# Altium schematic symbol library Analog$.SchLib: 93 symbols
Pins are listed as number, name and electrical type; pins without a type are passive.

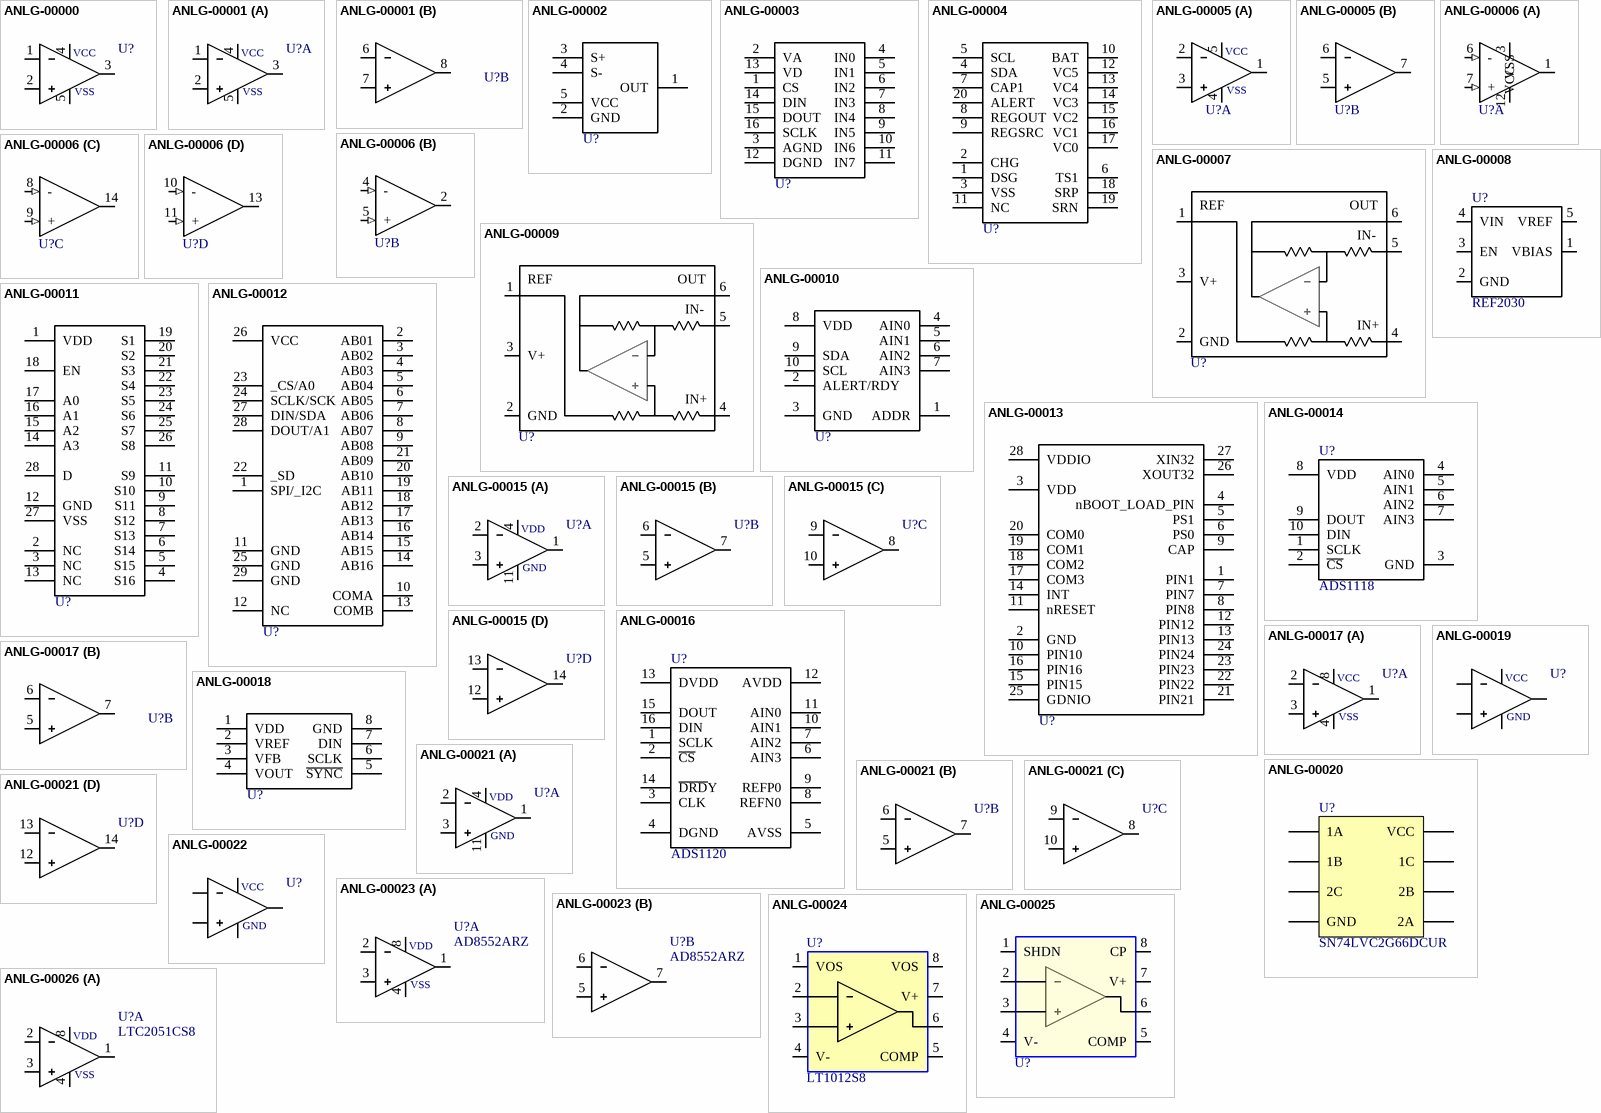
[diagram p0: symbols ANLG-00000 to ANLG-00026]

## ANLG-00000
designator U?, comment op-amp_0  (value not drawn)
Op Amp, Rail-Rail, 1.9MHz, SOT-25; Part Number: ANLG-00000; Manufacturer: Diodes; Manufacturer PN: TLV271CW5-7
footprint sot-25
pins: 1, 2, 3, 4, 5
text: VCC; VSS

## ANLG-00001
designator U?, comment op-amp-d_0  (value not drawn)
Op Amp, Dual, Rail-Rail, 2MHz, SO-8; Part Number: ANLG-00001; Manufacturer: Diodes; Manufacturer PN: TLV272IS-13
footprint so-8
part A pins: 1, 2, 3, 4, 5
part B pins: 6, 7, 8
part A text: VCC; VSS

## ANLG-00002
designator U?, comment curr-mon_0  (value not drawn)
Curr Monitor, High Side, 60V, SOT-25; Part Number: ANLG-00002; Manufacturer: Diodes; Manufacturer PN: ZXCT1086E5TA
footprint sot-25
pins: 1 OUT, 2 GND, 3 S+, 4 S-, 5 VCC

## ANLG-00003
designator U?, comment ADC088S022  (value not drawn)
ADC, 8-bit, 8-channel, 200ksps, TSSOP-16; Part Number: ANLG-00003; Manufacturer: TI; Manufacturer PN: ADC088S022
footprint tssop-16_0
pins: 1 CS, 2 VA, 3 AGND, 4 IN0, 5 IN1, 6 IN2, 7 IN3, 8 IN4, 9 IN5, 10 IN6, 11 IN7, 12 DGND, 13 VD, 14 DIN, 15 DOUT, 16 SCLK

## ANLG-00004
designator U?, comment BQ76920  (value not drawn)
Batt Monitor, 3-5 Cell, BQ76920; Part Number: ANLG-00004; Manufacturer: TI; Manufacturer PN: BQ7690
footprint TSSOP-20_0
pins: 1 DSG, 2 CHG, 3 VSS, 4 SDA, 5 SCL, 6 TS1, 7 CAP1, 8 REGOUT, 9 REGSRC, 10 BAT, 11 NC, 12 VC5, 13 VC4, 14 VC3, 15 VC2, 16 VC1, 17 VC0, 18 SRP, 19 SRN, 20 ALERT

## ANLG-00005
designator U?, comment LM358  (value not drawn)
Op Amp, Dual, 1.1MHz, SO-8, LM358; Part Number: ANLG-00005; Manufacturer: ST; Manufacturer PN: LM358DT
footprint so-8
part A pins: 1, 2, 3, 4, 5
part B pins: 5, 6, 7
part A text: VCC; VSS

## ANLG-00006
designator U?, comment LM339  (value not drawn)
Comp, Quad, LM339; Part Number: ANLG-00006; Manufacturer: TI; Manufacturer PN: LM339
footprint so-14
part A pins: 1 (oc), 3 VCC, 6 - (in), 7 + (in), 12 VSS
part B pins: 2 (oc), 4 - (in), 5 + (in)
part C pins: 8 - (in), 9 + (in), 14 (oc)
part D pins: 10 - (in), 11 + (in), 13 (oc)

## ANLG-00007
designator U?, comment INA215  (value not drawn)
Curr monitor, Bidirection, Gain 75, Low/High Side, 75V, SC70; Part Number: ANLG-00007; Manufacturer: TI; Manufacturer PN: INA215
footprint SC70
pins: 1 REF, 2 GND, 3 V+, 4 IN+, 5 IN-, 6 OUT

## ANLG-00008
designator U?, comment REF2030
Reference, Dual VREF VREF/2 Low Drift, 3V, SOT 23-5; Part Number: ANLG-00008; Manufacturer: TI; Manufacturer PN: REF2030
footprint sot-23-5
pins: 1 VBIAS, 2 GND, 3 EN, 4 VIN, 5 VREF

## ANLG-00009
designator U?, comment INA215  (value not drawn)
Curr monitor, Bidirection, Gain 50, Low/High Side, 75V, SC70; Part Number: ANLG-00009; Manufacturer: TI; Manufacturer PN: INA213
footprint SC70
pins: 1 REF, 2 GND, 3 V+, 4 IN+, 5 IN-, 6 OUT

## ANLG-00010
designator U?, comment ADS1115  (value not drawn)
ADC, 16-Bit, 4-channel, Low power, ADS1115, VSSOP-10; Part Number: ANLG-00010; Manufacturer: TI; Manufacturer PN: ADS1115
footprint VSSOP-10_0
pins: 1 ADDR, 2 ALERT/RDY, 3 GND, 4 AIN0, 5 AIN1, 6 AIN2, 7 AIN3, 8 VDD, 9 SDA, 10 SCL

## ANLG-00011
designator U?, comment MUX36S16  (value not drawn)
Analog Mux, 16:1, 10V - 36V, MUX36S16; Part Number: ANLG-00011; Manufacturer: TI; Manufacturer PN: MUX36S16
footprint tssop-28_1
pins: 1 VDD, 2 NC, 3 NC, 4 S16, 5 S15, 6 S14, 7 S13, 8 S12, 9 S11, 10 S10, 11 S9, 12 GND, 13 NC, 14 A3, 15 A2, 16 A1, 17 A0, 18 EN, 19 S1, 20 S2, 21 S3, 22 S4, 23 S5, 24 S6, 25 S7, 26 S8, 27 VSS, 28 D

## ANLG-00012
designator U?, comment MAX14661  (value not drawn)
Analog Mux, 16:2, Beyond the Rails, MAX14661; Part Number: ANLG-00012; Manufacturer: Maxim; Manufacturer PN: MAX14661
footprint TQFN-28L
pins: 1 SPI/_I2C, 2 AB01, 3 AB02, 4 AB03, 5 AB04, 6 AB05, 7 AB06, 8 AB07, 9 AB08, 10 COMA, 11 GND, 12 NC, 13 COMB, 14 AB16, 15 AB15, 16 AB14, 17 AB13, 18 AB12, 19 AB11, 20 AB10, 21 AB09, 22 _SD, 23 _CS/A0, 24 SCLK/SCK, 25 GND, 26 VCC, 27 DIN/SDA, 28 DOUT/A1, 29 GND

## ANLG-00013
designator U?, comment BNO055  (value not drawn)
Sensor, 9-Axis IMU, BNO055, LGA28; Part Number: ANLG-00013; Manufacturer: Bosch; Manufacturer PN: BNO055
footprint LGA28
pins: 1 PIN1, 2 GND, 3 VDD, 4 nBOOT_LOAD_PIN, 5 PS1, 6 PS0, 7 PIN7, 8 PIN8, 9 CAP, 10 PIN10, 11 nRESET, 12 PIN12, 13 PIN13, 14 INT, 15 PIN15, 16 PIN16, 17 COM3, 18 COM2, 19 COM1, 20 COM0, 21 PIN21, 22 PIN22, 23 PIN23, 24 PIN24, 25 GDNIO, 26 XOUT32, 27 XIN32, 28 VDDIO

## ANLG-00014
designator U?, comment ADS1118
ADC, 16-bit, 4-channel, SPI, ADS1118, VSSOP-10; Part Number: ANLG-00014; Manufacturer: TI; Manufacturer PN: ADS1118
footprint VSSOP-10_0
pins: 1 SCLK, 2 ~{CS}, 3 GND, 4 AIN0, 5 AIN1, 6 AIN2, 7 AIN3, 8 VDD, 9 DOUT, 10 DIN

## ANLG-00015
designator U?, comment TLV274CPWR  (value not drawn)
Op Amp, Quad, Rail-Rail, 3-MHz, TSSOP-14; Part Number: ANLG-00015; Manufacturer: TI; Manufacturer PN: TLV274CPWR
footprint TSSOP-14_0
part A pins: 1, 2, 3, 4, 11
part B pins: 5, 6, 7
part C pins: 8, 9, 10
part D pins: 12, 13, 14
part A text: VDD; GND

## ANLG-00016
designator U?, comment ADS1120
ADC, 16-bit, 4-channel, SPI, 2k SPS, TSSOP-16; Part Number: ANLG-00016; Manufacturer: TI; Manufacturer PN: ADS1120; Cost: 6.8
footprint tssop-16_0
pins: 1 SCLK, 2 ~{CS}, 3 CLK, 4 DGND, 5 AVSS, 6 AIN3, 7 AIN2, 8 REFN0, 9 REFP0, 10 AIN1, 11 AIN0, 12 AVDD, 13 DVDD, 14 ~{DRD}Y, 15 DOUT, 16 DIN

## ANLG-00017
designator U?, comment TLV272DGK  (value not drawn)
Op Amp, Dual, Rail-Rail, 3MHZ, 8-VSSOP; Part Number: ANLG-00017; Manufacturer: TI; Manufacturer PN: TLV272CDGKR; Cost: 0.8
footprint VSSOP-8_0
part A pins: 1, 2, 3, 4, 8
part B pins: 5, 6, 7
part A text: VCC; VSS

## ANLG-00018
designator U?, comment DAC8551  (value not drawn)
DAC, 16-bit, Voltage output, SPI, 8-VSSOP; Part Number: ANLG-00018; Manufacturer: TI; Manufacturer PN: DAC8551IDGKR; Cost: 6.27
footprint VSSOP-8_0
pins: 1 VDD, 2 VREF, 3 VFB, 4 VOUT, 5 ~{SYNC}, 6 SCLK, 7 DIN, 8 GND

## ANLG-00019
designator U?, comment LMV331  (value not drawn)
Comparator, Single, LM331, SOT-23-5, 5.5V; Part Number: ANLG-00019; Manufacturer: TI; Manufacturer PN: LMV331IDBVR; Cost: 0.68
footprint sot-23-5
pins: 1, 2, 3, 4, 5
text: VCC; GND

## ANLG-00020
designator U?, comment SN74LVC2G66DCUR
Analog Switch, Dual, SPST, SN74LVC2G66DCUR SO-8; Part Number: ANLG-00020; Manufacturer: TI; Manufacturer PN: SN74LVC2G66DCUR; Cost: 0.53
footprint so-8
pins: 1 1A, 2 1B, 3 2C, 4 GND, 5 2A, 6 2B, 7 1C, 8 VCC

## ANLG-00021
designator U?, comment OPA4170  (value not drawn)
Op Amp, Quad, Rail-Rail, 1.2-MHz, SO-14, 36V; Part Number: ANLG-00021; Manufacturer: TI; Manufacturer PN: OPA4170AIDR; Cost: 2.79
footprint so-14
part A pins: 1, 2, 3, 4, 11
part B pins: 5, 6, 7
part C pins: 8, 9, 10
part D pins: 12, 13, 14
part A text: VDD; GND

## ANLG-00022
designator U?, comment COMP_0  (value not drawn)
Comparator, Single, TLV1701, SOT-23-5, 36V; Part Number: ANLG-00022; Manufacturer: TI; Manufacturer PN: TLV1701AIDBVR; Cost: 1.16
footprint sot-23-5
pins: 1, 2, 3, 4, 5
text: VCC; GND

## ANLG-00023
designator U?, comment AD8552ARZ
Op Amp, Dual, Zero-Drift, Rail-Rail, AD8552; Part Number: ANLG-00023; Manufacturer: Analog Devices; Manufacturer PN: AD8552ARZ; Cost: 5.18
footprint so-8
part A pins: 1, 2, 3, 4, 8
part B pins: 5, 6, 7
part A text: VDD; VSS

## ANLG-00024
designator U?, comment LT1012S8
Op Amp, Single, Gen. Purpose, LT1012; Part Number: ANLG-00024; Manufacturer: Analog Devices; Manufacturer PN: LT1012S8; Cost: 7.59
footprint so-8
pins: 1 VOS, 2, 3, 4 V-, 5 COMP, 6, 7 V+, 8 VOS

## ANLG-00025
designator U?, comment op-amp_2  (value not drawn)
Op Amp, Single, Zero-Drift, 10pA input bias, LTC1152; Part Number: ANLG-00025; Manufacturer: Analog Devices; Manufacturer PN: LTC1152CS8#PBF; Cost: 6.66
footprint so-8
pins: 1 SHDN, 2, 3, 4 V-, 5 COMP, 6, 7 V+, 8 CP

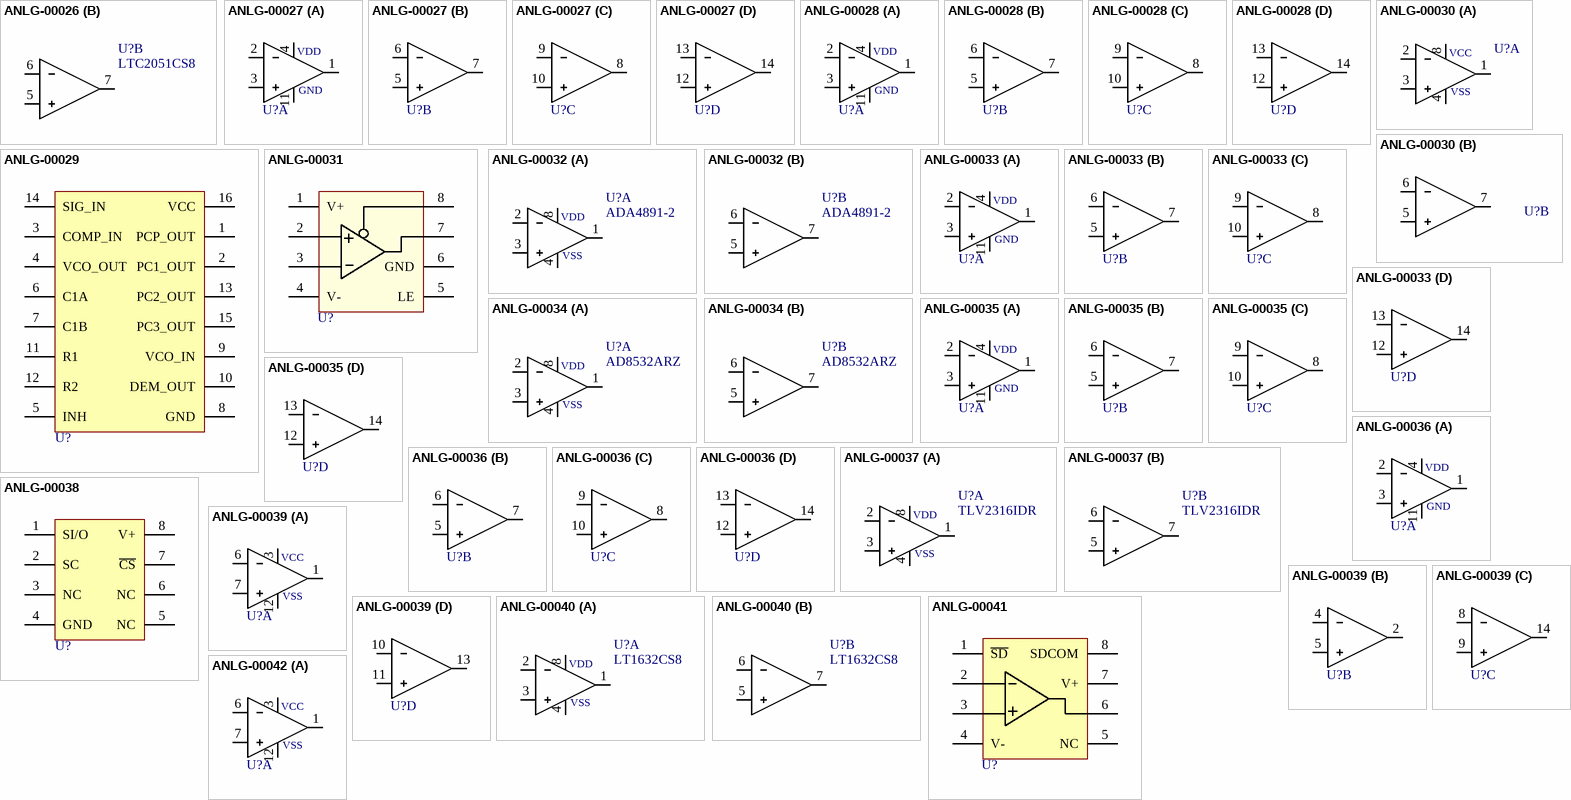
[diagram p1: symbols ANLG-00026 to ANLG-00042]

## ANLG-00026
designator U?, comment LTC2051CS8
Op Amp, Dual, Zero-Drift, 5V, LTC2051CS8; Part Number: ANLG-00026; Manufacturer: Analog Devices; Manufacturer PN: LTC2051CS8; Cost: 5.63
footprint so-8
part A pins: 1, 2, 3, 4, 8
part B pins: 5, 6, 7
part A text: VDD; VSS

## ANLG-00027
designator U?, comment op-amp-q_0  (value not drawn)
Op Amp, Quad, Zero-Drift, 5V, LTC2052CS; Part Number: ANLG-00027; Manufacturer: Analog Devices; Manufacturer PN: LTC2052CS; Cost: 1
footprint so-14
part A pins: 1, 2, 3, 4, 11
part B pins: 5, 6, 7
part C pins: 8, 9, 10
part D pins: 12, 13, 14
part A text: VDD; GND

## ANLG-00028
designator U?, comment op-amp-q_0  (value not drawn)
Op Amp, Quad, Zero-Drift, Rail-Rail, AD8554; Part Number: ANLG-00028; Manufacturer: Analog Devices; Manufacturer PN: AD8554ARZ; Cost: 8.2
footprint so-14
part A pins: 1, 2, 3, 4, 11
part B pins: 5, 6, 7
part C pins: 8, 9, 10
part D pins: 12, 13, 14
part A text: VDD; GND

## ANLG-00029
designator U?, comment HC4046  (value not drawn)
PLL, 4046, SOIC-16; Part Number: ANLG-00029; Manufacturer: TI; Manufacturer PN: CD74HC4046AM96; Cost: 0.6
footprint so-16
pins: 1 PCP_OUT, 2 PC1_OUT, 3 COMP_IN, 4 VCO_OUT, 5 INH, 6 C1A, 7 C1B, 8 GND, 9 VCO_IN, 10 DEM_OUT, 11 R1, 12 R2, 13 PC2_OUT, 14 SIG_IN, 15 PC3_OUT, 16 VCC

## ANLG-00030
designator U?, comment TLV272DGK  (value not drawn)
Op Amp, Dual, Rail-Rail, 3MHZ, SOIC-8; Part Number: ANLG-00030; Manufacturer: TI; Manufacturer PN: TLV272CDR; Cost: 0.9
footprint so-8
part A pins: 1, 2, 3, 4, 8
part B pins: 5, 6, 7
part A text: VCC; VSS

## ANLG-00031
designator U?, comment LT1016  (value not drawn)
Comparator, Single, LT1016, SOIC-8, UltraFast; Part Number: ANLG-00031; Manufacturer: Analog Devices; Manufacturer PN: LT1016CS8; Cost: 7.62
footprint so-8
pins: 1 V+, 2 +, 3 -, 4 V-, 5 LE, 6 GND, 7 Q, 8 ~{Q}

## ANLG-00032
designator U?, comment ADA4891-2
Op Amp, Dual, Rail-Rail, 220MHz, SOIC-8, ADA4891-2; Part Number: ANLG-00032; Manufacturer: Analog Devices; Manufacturer PN: ADA4891-2; Cost: 2.09
footprint so-8
part A pins: 1, 2, 3, 4, 8
part B pins: 5, 6, 7
part A text: VDD; VSS

## ANLG-00033
designator U?, comment op-amp-q_0  (value not drawn)
Op Amp, Quad, Rail-Rail, 3-MHz, SOIC-14, AD8534; Part Number: ANLG-00033; Manufacturer: Analog Devices; Manufacturer PN: AD8534ARZ; Cost: 1.75
footprint so-14
part A pins: 1, 2, 3, 4, 11
part B pins: 5, 6, 7
part C pins: 8, 9, 10
part D pins: 12, 13, 14
part A text: VDD; GND

## ANLG-00034
designator U?, comment AD8532ARZ
Op Amp, Dual, Rail-Rail, 3-MHz, SOIC-8, AD8532; Part Number: ANLG-00034; Manufacturer: Analog Devices; Manufacturer PN: AD8532ARZ; Cost: 1.37
footprint so-8
part A pins: 1, 2, 3, 4, 8
part B pins: 5, 6, 7
part A text: VDD; VSS

## ANLG-00035
designator U?, comment op-amp-q_0  (value not drawn)
Op Amp, Quad, Rail-Rail, 3-MHz, SOIC-14, TLV274; Part Number: ANLG-00035; Manufacturer: TI; Manufacturer PN: TLV274CDR; Cost: 1.26
footprint so-14
part A pins: 1, 2, 3, 4, 11
part B pins: 5, 6, 7
part C pins: 8, 9, 10
part D pins: 12, 13, 14
part A text: VDD; GND

## ANLG-00036
designator U?, comment op-amp-q_0  (value not drawn)
Op Amp, Quad, Rail-Rail, 10-MHz, CMOS, SOIC-14, TLV4316; Part Number: ANLG-00036; Manufacturer: TI; Manufacturer PN: TLV4316IDR; Cost: 1.61
footprint so-14
part A pins: 1, 2, 3, 4, 11
part B pins: 5, 6, 7
part C pins: 8, 9, 10
part D pins: 12, 13, 14
part A text: VDD; GND

## ANLG-00037
designator U?, comment TLV2316IDR
Op Amp, Dual, Rail-Rail, 10-MHz, CMOS, SOIC-8, TLV2316; Part Number: ANLG-00037; Manufacturer: TI; Manufacturer PN: TLV2316IDR; Cost: 1.08
footprint so-8
part A pins: 1, 2, 3, 4, 8
part B pins: 5, 6, 7
part A text: VDD; VSS

## ANLG-00038
designator U?, comment LM74  (value not drawn)
Temperature Sensor, SPI 12-bit, SOIC-8, LM74; Part Number: ANLG-00038; Manufacturer: TI; Manufacturer PN: LM74CIM-3/NOPB; Cost: 2.52
footprint so-8
pins: 1 SI/O, 2 SC, 3 NC, 4 GND, 5 NC, 6 NC, 7 ~{CS}, 8 V+

## ANLG-00039
designator U?, comment comp_q_0  (value not drawn)
Comparator, Quad, TLV1704, 2.2V-36V, TSSOP-14; Part Number: ANLG-00039; Manufacturer: TI; Manufacturer PN: TLV1704AIPWR; Cost: 2.59
footprint TSSOP-14_0
part A pins: 1, 3, 6, 7, 12
part B pins: 2, 4, 5
part C pins: 8, 9, 14
part D pins: 10, 11, 13
part A text: VCC; VSS

## ANLG-00040
designator U?, comment LT1632CS8
Op Amp, Dual, Rail-Rail, 45MHz, 45V/us, SOIC-8, LT1632; Part Number: ANLG-00040; Manufacturer: Analog Devices; Manufacturer PN: LT1632CS8; Cost: 7.75
footprint so-8
part A pins: 1, 2, 3, 4, 8
part B pins: 5, 6, 7
part A text: VDD; VSS

## ANLG-00041
designator U?, comment LTC2057  (value not drawn)
Op Amp, Single, High-Voltage (4.5 - 36V), Low Noise, Zero-Drift, SOIC-8, LTC2057; Part Number: ANLG-00041; Manufacturer: Analog Devices; Manufacturer PN: LTC2057IS8#PBF; Cost: 2.78
footprint so-8
pins: 1 ~{SD}, 2 -IN, 3 +IN, 4 V-, 5 NC, 6 OUT, 7 V+, 8 SDCOM

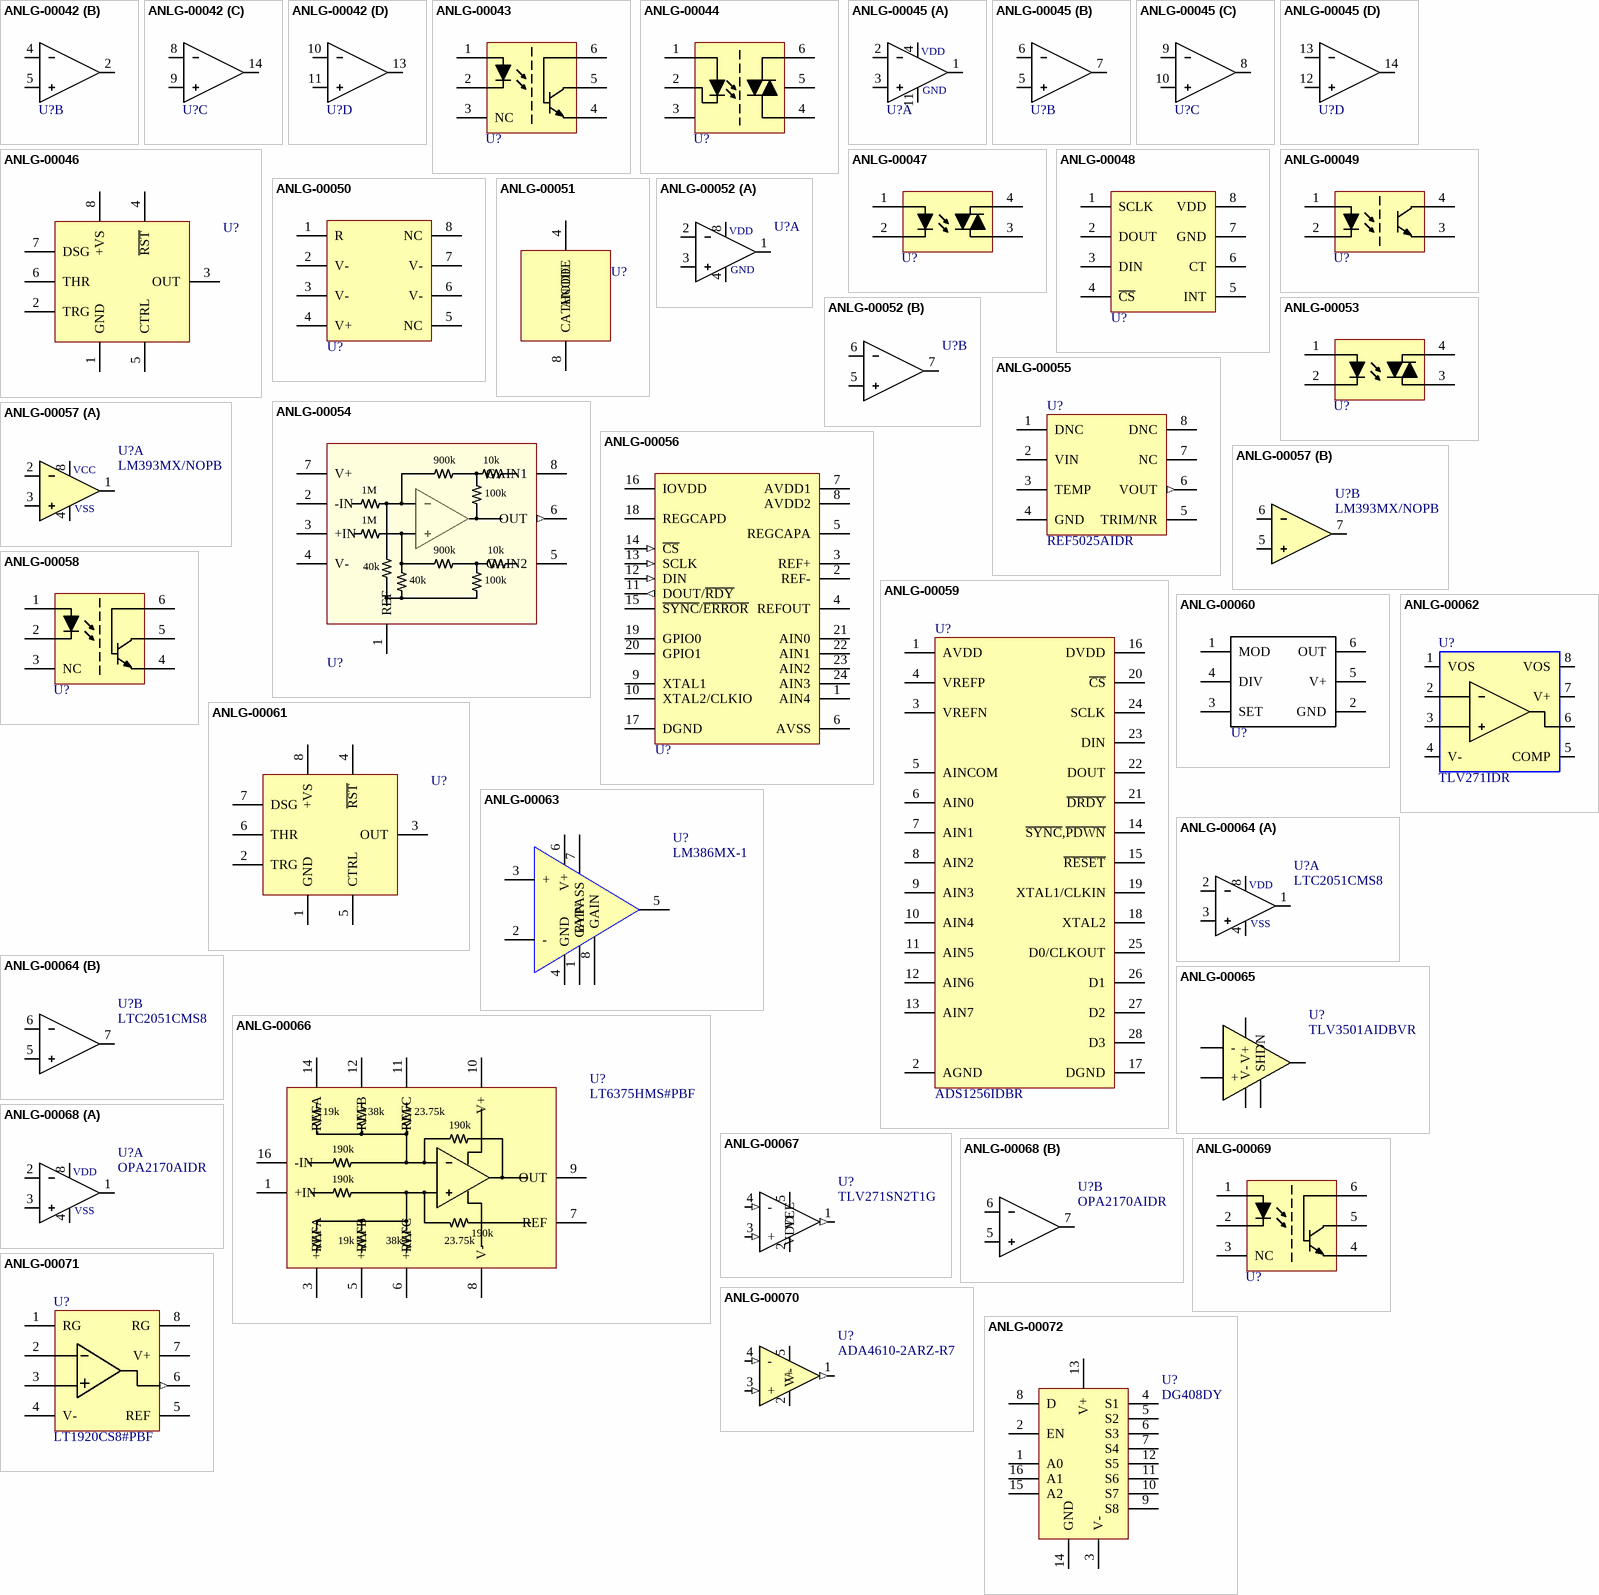
[diagram p2: symbols ANLG-00042 to ANLG-00072]

## ANLG-00042
designator U?, comment comp_q_0  (value not drawn)
Comparator, Quad, LM339, DIP-14; Part Number: ANLG-00042; Manufacturer: TI; Manufacturer PN: LM339N; Cost: 0.5
footprint DIP14
part A pins: 1, 3, 6, 7, 12
part B pins: 2, 4, 5
part C pins: 8, 9, 14
part D pins: 10, 11, 13
part A text: VCC; VSS

## ANLG-00043
designator U?, comment 4N25  (value not drawn)
Opto-Coupler, Photo-Transistor output, 5000 Vrms Isolation; Part Number: ANLG-00043; Manufacturer: ON Semi; Manufacturer PN: 4N25M; Cost: 0.55
footprint DIP6
pins: 1 A, 2 A, 3 NC, 4 C, 5 E, 6 B

## ANLG-00044
designator U?, comment MOC3072  (value not drawn)
Triac Driver Opto-Coupler, 800V peak voltage; Part Number: ANLG-00044; Manufacturer: ON Semi; Manufacturer PN: MOC3072SVM; Cost: 1.47
footprint MDIP_6_SMD
pins: 1 A, 2 C, 3 NC, 4 M2, 5 NC, 6 M1

## ANLG-00045
designator U?, comment op-amp-q_0  (value not drawn)
Op Amp, Quad, Rail-Rail, 3-MHz, DIP-14, TLV274; Part Number: ANLG-00045; Manufacturer: TI; Manufacturer PN: TLV274IN; Cost: 1.47
footprint DIP14
part A pins: 1, 2, 3, 4, 11
part B pins: 5, 6, 7
part C pins: 8, 9, 10
part D pins: 12, 13, 14
part A text: VDD; GND

## ANLG-00046
designator U?, comment 555  (value not drawn)
IC, 555 Timer, DIP-8; Part Number: ANLG-00046; Manufacturer: TI; Manufacturer PN: NE555P; Cost: 0.45
footprint DIP8
pins: 1 GND, 2 TRG, 3 OUT, 4 ~{RST}, 5 CTRL, 6 THR, 7 DSG, 8 +VS

## ANLG-00047
designator U?, comment VOT8121  (value not drawn)
Opto-Triac, 800V peak voltage, 5300 Vrms isolation, 0.4" DIP-4; Part Number: ANLG-00047; Manufacturer: Vishay; Manufacturer PN: VOT8121AG; Cost: 1.04
footprint DIP4_0.4
pins: 1 A, 2 C, 3 MT1, 4 MT2

## ANLG-00048
designator U?, comment ADT7310  (value not drawn)
IC, 0.5°C Accurate 16-bit Digital SPI Temperature Sensor, SOIC-8, ADT7310; Part Number: ANLG-00048; Manufacturer: Analog Devices; Manufacturer PN: ADT7310TRZ; Cost: 3.93
footprint SO-8_1
pins: 1 SCLK, 2 DOUT, 3 DIN, 4 ~{CS}, 5 INT, 6 CT, 7 GND, 8 VDD

## ANLG-00049
designator U?, comment opto_0  (value not drawn)
IC, Opto-Coupler, 3750 Vrms, Wide SOIC-4, TLP291(SE; Part Number: ANLG-00049; Manufacturer: Toshiba; Manufacturer PN: TLP291(SE; Cost: 0.45
footprint SO-4
pins: 1 A, 2 A, 3 E, 4 C

## ANLG-00050
designator U?, comment LM334  (value not drawn)
IC, Current Source, Adjustable, 3%, LM334, SOIC-8; Part Number: ANLG-00050; Manufacturer: TI; Manufacturer PN: LM334MX/NOPB; Cost: 0.9
footprint SO-8_1
pins: 1 R, 2 V-, 3 V-, 4 V+, 5 NC, 6 V-, 7 V-, 8 NC

## ANLG-00051
designator U?, comment LM285  (value not drawn)
IC, Voltage Reference, 1.235V, LM285-1.2; Part Number: ANLG-00051; Manufacturer: TI; Manufacturer PN: LM285D-1-2; Cost: 0.71
footprint SO-8_1
pins: 1 NC hidden, 2 NC hidden, 3 NC hidden, 4 ANODE, 5 NC hidden, 6 NC hidden, 7 NC hidden, 8 CATHODE

## ANLG-00052
designator U?, comment comp-d_0  (value not drawn)
Comparator, Dual, 40ns, Push-Pull Output, 2.7-5.5V; Part Number: ANLG-00052; Manufacturer: TI; Manufacturer PN: TLV3202AID
footprint SO-8_1
part A pins: 1, 2, 3, 4, 8
part B pins: 5, 6, 7
part A text: VDD; GND

## ANLG-00053
designator U?, comment VOT8121  (value not drawn)
Opto-Triac, 800V peak voltage, 5300 Vrms isolation, SMD; Part Number: ANLG-00053; Manufacturer: Vishay; Manufacturer PN: VOT8121AB-ND; Cost: 1.04
footprint VOT8121_SMD-4
pins: 1 A, 2 C, 3 MT1, 4 MT2

## ANLG-00054
designator U?, comment LT1990  (value not drawn)
Diff Amp, +/-250V Common Mode Range, LT1990; Part Number: ANLG-00054; Manufacturer: Analog Devices; Manufacturer PN: LT1990CS8; Cost: 3.26
footprint SO-8_1
pins: 1 REF, 2 -IN, 3 +IN, 4 V- (power), 5 GAIN2, 6 OUT (out), 7 V+ (power), 8 GAIN1
text: 900k; 10k; 1M; 100k; 40k

## ANLG-00055
designator U?, comment REF5025AIDR
IC, Voltage Reference, 2.5V, 3ppm/°C, REF5020; Part Number: ANLG-00055; Manufacturer: TI; Manufacturer PN: REF5025AIDR; Cost: 3
footprint SO-8_1
pins: 1 DNC, 2 VIN (power), 3 TEMP, 4 GND (power), 5 TRIM/NR, 6 VOUT (out), 7 NC, 8 DNC

## ANLG-00056
designator U?
ADC, 24-bit, 4-channel, Sigma-Delta, 31.25k SPS, TSSOP-24; Part Number: ANLG-00056; Manufacturer: Analog Devices; Manufacturer PN: AD7172-2BRUZ-RL7; Cost: 14.99
footprint TSSOP-24_0
pins: 1 AIN4, 2 REF-, 3 REF+, 4 REFOUT, 5 REGCAPA, 6 AVSS (power), 7 AVDD1 (power), 8 AVDD2 (power), 9 XTAL1, 10 XTAL2/CLKIO, 11 DOUT/~{RDY} (out), 12 DIN (in), 13 SCLK (in), 14 ~{CS} (in), 15 ~{SYNC}/~{ERROR}, 16 IOVDD (power), 17 DGND (power), 18 REGCAPD, 19 GPIO0, 20 GPIO1, 21 AIN0, 22 AIN1, 23 AIN2, 24 AIN3

## ANLG-00057
designator U?, comment LM393MX/NOPB
Comparator, Dual, LM393, Low-Power, 2.0-36V, SOIC-8; Part Number: ANLG-00057; Manufacturer: TI; Manufacturer PN: LM393MX/NOPB; Cost: 0.79
footprint SO-8_1
part A pins: 1, 2, 3, 4, 8
part B pins: 5, 6, 7
part A text: VCC; VSS

## ANLG-00058
designator U?, comment 4N25  (value not drawn)
Opto-Isolator, Photo-Transistor output, 4.1kVrms Isolation, SMD; Part Number: ANLG-00058; Manufacturer: ON Semi; Manufacturer PN: 4N25SM; Cost: 0.64
footprint MDIP_6_SMD
pins: 1 A, 2 A, 3 NC, 4 C, 5 E, 6 B

## ANLG-00059
designator U?, comment ADS1256IDBR
ADC, 24-bit, 8-channel MUX-PGA, Sigma-Delta, 30k SPS, SSOP-28; Part Number: ANLG-00059; Manufacturer: TI; Manufacturer PN: ADS1256IDBR; Cost: 14.43
footprint SSOP-28_0
pins: 1 AVDD, 2 AGND, 3 VREFN, 4 VREFP, 5 AINCOM, 6 AIN0, 7 AIN1, 8 AIN2, 9 AIN3, 10 AIN4, 11 AIN5, 12 AIN6, 13 AIN7, 14 ~{SYNC},~{PDWN}, 15 ~{RESET}, 16 DVDD, 17 DGND, 18 XTAL2, 19 XTAL1/CLKIN, 20 ~{CS}, 21 ~{DRDY}, 22 DOUT, 23 DIN, 24 SCLK, 25 D0/CLKOUT, 26 D1, 27 D2, 28 D3

## ANLG-00060
designator U?, comment LTC6992  (value not drawn)
IC, Voltage Controlled PWM Generator, TSOT-23, LTC6992; Part Number: ANLG-00060; Manufacturer: Analog Devices; Manufacturer PN: LTC6992CS6-1; Cost: 3.99
footprint TSOT-23-6
pins: 1 MOD, 2 GND, 3 SET, 4 DIV, 5 V+, 6 OUT

## ANLG-00061
designator U?, comment 555  (value not drawn)
IC, 555 Timer, SOIC-8; Part Number: ANLG-00061; Manufacturer: TI; Manufacturer PN: NE555DR; Cost: 0.36
footprint SO-8_1
pins: 1 GND, 2 TRG, 3 OUT, 4 ~{RST}, 5 CTRL, 6 THR, 7 DSG, 8 +VS

## ANLG-00062
designator U?, comment TLV271IDR
Op Amp, Single, Rail-Rail, 3-MHz, SOIC-8, TLV271; Part Number: ANLG-00062; Manufacturer: TI; Manufacturer PN: TLV271IDR; Cost: 0.87
footprint SO-8_1
pins: 1 VOS, 2, 3, 4 V-, 5 COMP, 6, 7 V+, 8 VOS

## ANLG-00063
designator U?, comment LM386MX-1
IC, Audio Power Amplifier, Class AB, 4V~12V, SOIC-8, LM386; Part Number: ANLG-00063; Manufacturer: TI; Manufacturer PN: LM386MX-1; Cost: 1.02
footprint SO-8_1
pins: 1 GAIN, 2 -, 3 +, 4 GND, 5 OUT, 6 V+, 7 BYPASS, 8 GAIN

## ANLG-00064
designator U?, comment LTC2051CMS8
Op Amp, Dual, Zero-Drift, 2.7 ~ 7V, MSOP-8, LTC2051CMS8; Part Number: ANLG-00064; Manufacturer: Analog Devices; Manufacturer PN: LTC2051CMS8; Cost: 5.48
footprint MSOP-8_0
part A pins: 1, 2, 3, 4, 8
part B pins: 5, 6, 7
part A text: VDD; VSS

## ANLG-00065
designator U?, comment TLV3501AIDBVR
IC, Comparator, Single, 4.5ns, Rail-Rail, Push-Pull Output, TLV3501; Part Number: ANLG-00065; Manufacturer: TI; Manufacturer PN: TLV3501AIDBVR; Cost: 2.7
footprint SOT-23-6
pins: 1 -, 2 V-, 3 +, 4 V+, 5 OUT, 6 SHDN

## ANLG-00066
designator U?, comment LT6375HMS#PBF
Diff Amp, +/- 270V Common Mode Range, 3.3V ~ 50V Supply, LT6375; Part Number: ANLG-00066; Manufacturer: Linear Technology; Manufacturer PN: LT6375HMS#PBF; Cost: 8.45
footprint LT-MSOP-16(12)
pins: 1 +IN, 3 +REFA, 5 +REFB, 6 +REFC, 7 REF, 8 V-, 9 OUT, 10 V+, 11 -REFC, 12 -REFB, 14 -REFA, 16 -IN
text: 19k; 38k; 23.75k; 190k

## ANLG-00067
designator U?, comment TLV271SN2T1G
IC, Op Amp, Single, Rail-Rail, 3-MHz, SOT-23-5, TLV271; Part Number: ANLG-00067; Manufacturer: ON Semi; Manufacturer PN: TLV271SN2T1G; Cost: 1.32
footprint SOT-23-5_1
pins: 1 (out), 2 VEE (power), 3 + (in), 4 - (in), 5 VDD

## ANLG-00068
designator U?, comment OPA2170AIDR
Op Amp, Dual, Rail-Rail, 2.7~36V, 2.1-MHz, SOIC-8; Part Number: ANLG-00068; Manufacturer: TI; Manufacturer PN: OPA2170AIDR; Cost: 1.84
footprint SO-8_1
part A pins: 1, 2, 3, 4, 8
part B pins: 5, 6, 7
part A text: VDD; VSS

## ANLG-00069
designator U?, comment 4N25  (value not drawn)
Opto-Coupler, Photo-Transistor Output, 4.1kVrms, CTR 100%, SMD; Part Number: ANLG-00069; Manufacturer: ON Semi; Manufacturer PN: 4N35SM; Cost: 0.64
footprint MDIP_6_SMD
pins: 1 A, 2 A, 3 NC, 4 C, 5 E, 6 B

## ANLG-00070
designator U?, comment ADA4610-2ARZ-R7
Op Amp, Single, JFET Input, Rail-Rail, +/- 15V supply, SOT-23-5; Part Number: ANLG-00070; Manufacturer: Analog Devices; Manufacturer PN: ADA4610-2ARZ-R7; Cost: 4.35
footprint SOT-23-5_1
pins: 1 (out), 2 V- (power), 3 + (in), 4 - (in), 5 V+ (power)

## ANLG-00071
designator U?, comment LT1920CS8#PBF
IC, Instrumentation Amp, Single, 4.6 ~ 36V supply, SOIC-8; Part Number: ANLG-00071; Manufacturer: Linear Technology; Manufacturer PN: LT1920CS8#PBF; Cost: 7.61
footprint SO-8_1
pins: 1 RG, 2 -IN, 3 +IN, 4 V- (power), 5 REF, 6 OUT (out), 7 V+ (power), 8 RG

## ANLG-00072
designator U?, comment DG408DY
Analog Mux, 8:1, 5 ~ 36V, SOIC-16; Part Number: ANLG-00072; Manufacturer: Vishay; Manufacturer PN: DG408DY; Cost: 1.77
footprint SO-16_1
pins: 1 A0, 2 EN, 3 V-, 4 S1, 5 S2, 6 S3, 7 S4, 8 D, 9 S8, 10 S7, 11 S6, 12 S5, 13 V+, 14 GND, 15 A2, 16 A1

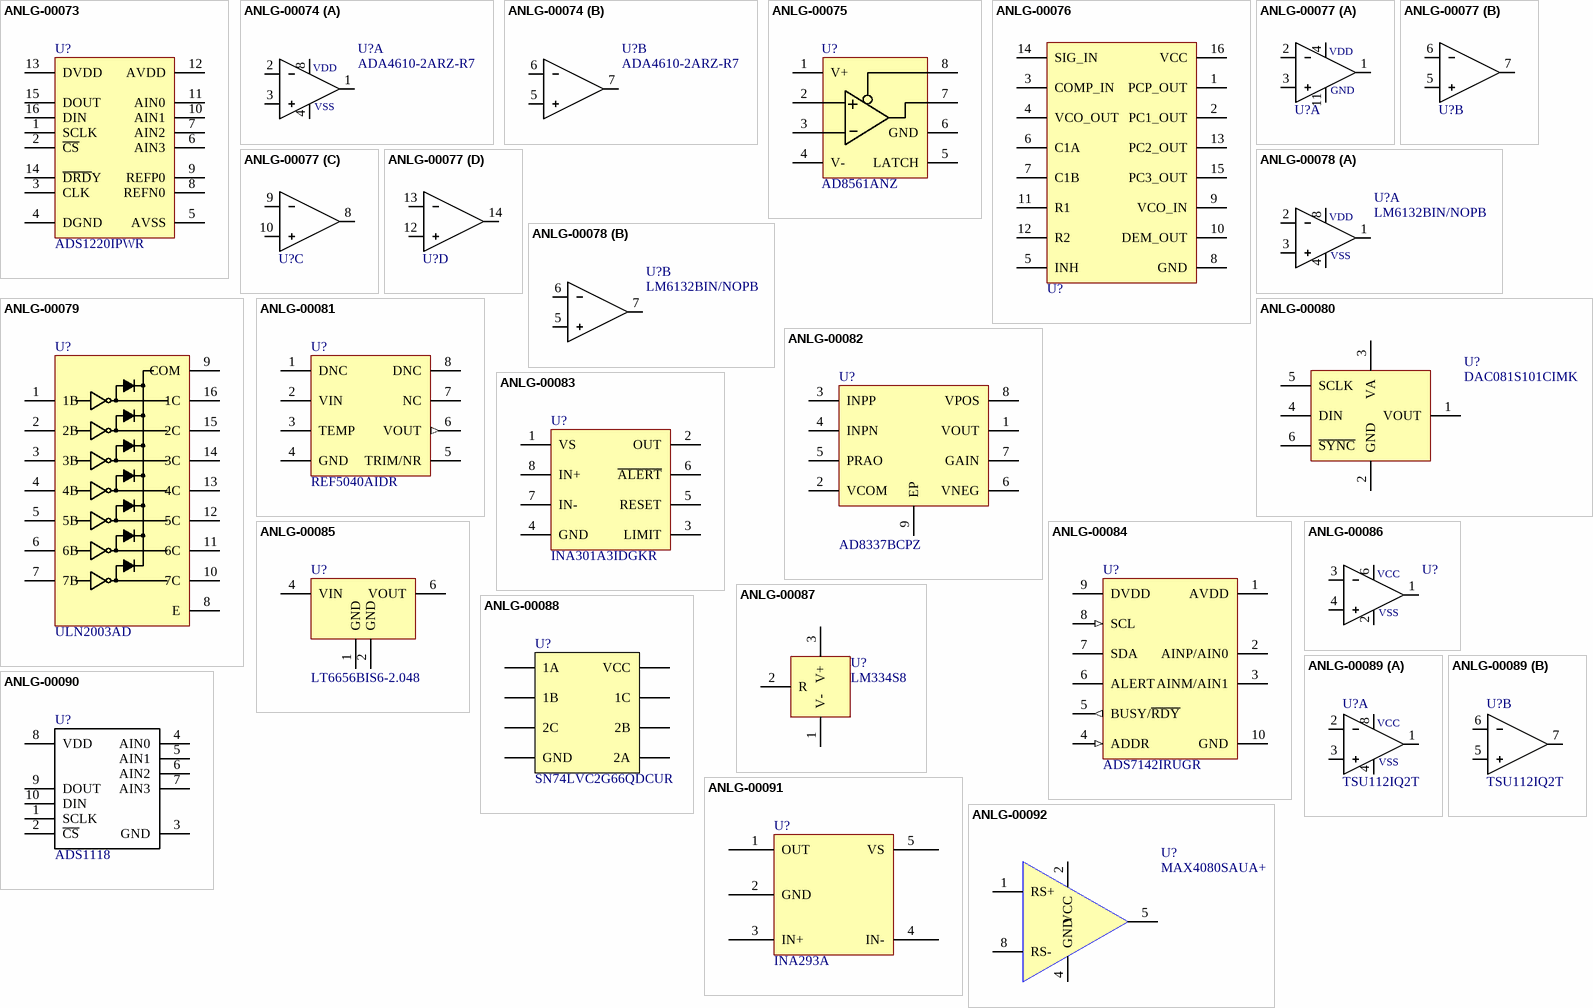
[diagram p3: symbols ANLG-00073 to ANLG-00092]

## ANLG-00073
designator U?, comment ADS1220IPWR
IC, ADC 24-bit 4-Channel MUX-PGA, Sigma-Delta, 2k SPS, 16-TSSOP; Part Number: ANLG-00073; Manufacturer: TI; Manufacturer PN: ADS1220IPWR; Cost: 8.27
footprint TSSOP-16_0_1
pins: 1 SCLK, 2 ~{CS}, 3 CLK, 4 DGND, 5 AVSS, 6 AIN3, 7 AIN2, 8 REFN0, 9 REFP0, 10 AIN1, 11 AIN0, 12 AVDD, 13 DVDD, 14 ~{DRD}Y, 15 DOUT, 16 DIN

## ANLG-00074
designator U?, comment ADA4610-2ARZ-R7
Op Amp, Dual, JFET Input, Rail-Rail, +/- 15V supply, 9.5MHz Bandwidth, SOIC-8; Part Number: ANLG-00074; Manufacturer: Analog Devices; Manufacturer PN: ADA4610-2ARZ-R7; Cost: 4.35
footprint SO-8_1
part A pins: 1, 2, 3, 4, 8
part B pins: 5, 6, 7
part A text: VDD; VSS

## ANLG-00075
designator U?, comment AD8561ANZ
Comparator, Single, Ultrafast 7ns, Single Supply 3V ~ 10V, DIP-8; Part Number: ANLG-00075; Manufacturer: Analog Devices; Manufacturer PN: AD8561ANZ; Cost: 5.96
footprint DIP8
pins: 1 V+, 2 +, 3 -, 4 V-, 5 LATCH, 6 GND, 7 Q, 8 ~{Q}

## ANLG-00076
designator U?, comment HC4046  (value not drawn)
IC, PLL, 3V ~ 18V, CD4046BE, DIP-16; Part Number: ANLG-00076; Manufacturer: TI; Manufacturer PN: CD4046BE; Cost: 0.56
footprint DIP16
pins: 1 PCP_OUT, 2 PC1_OUT, 3 COMP_IN, 4 VCO_OUT, 5 INH, 6 C1A, 7 C1B, 8 GND, 9 VCO_IN, 10 DEM_OUT, 11 R1, 12 R2, 13 PC2_OUT, 14 SIG_IN, 15 PC3_OUT, 16 VCC

## ANLG-00077
designator U?, comment op-amp-q_0  (value not drawn)
Op Amp, Quad, Low Power, Rail-Rail, 10MHz GBWP, DIP-14; Part Number: ANLG-00077; Manufacturer: TI; Manufacturer PN: LM6134BIN/NOPB; Cost: 4.86
footprint DIP14
part A pins: 1, 2, 3, 4, 11
part B pins: 5, 6, 7
part C pins: 8, 9, 10
part D pins: 12, 13, 14
part A text: VDD; GND

## ANLG-00078
designator U?, comment LM6132BIN/NOPB
Op Amp, Dual, Low Power, Rail-Rail, 10MHz GBWP, DIP-8; Part Number: ANLG-00078; Manufacturer: TI; Manufacturer PN: LM6132BIN/NOPB; Cost: 4.01
footprint DIP8
part A pins: 1, 2, 3, 4, 8
part B pins: 5, 6, 7
part A text: VDD; VSS

## ANLG-00079
designator U?, comment ULN2003AD
IC, 7 NPN Darlington Array, 50V 500mA; Part Number: ANLG-00079; Manufacturer: TI; Manufacturer PN: ULN2003AD; Cost: 0.49
footprint SO-16_1
pins: 1 1B, 2 2B, 3 3B, 4 4B, 5 5B, 6 6B, 7 7B, 8 E, 9 COM, 10 7C, 11 6C, 12 5C, 13 4C, 14 3C, 15 2C, 16 1C

## ANLG-00080
designator U?, comment DAC081S101CIMK
IC, DAC, 8-bit, Rail-Rail Output, SPI, 2.7~5.5V; Part Number: ANLG-00080; Manufacturer: TI; Manufacturer PN: DAC081S101CIMK; Cost: 1.45
footprint TSOT-23-6
pins: 1 VOUT, 2 GND, 3 VA, 4 DIN, 5 SCLK, 6 ~{SYNC}

## ANLG-00081
designator U?, comment REF5040AIDR
IC, Voltage Reference, 4.096V, 0.1%, 8ppm/°C; Part Number: ANLG-00081; Manufacturer: TI; Manufacturer PN: REF5040AIDR; Cost: 2.92
footprint SO-8_1
pins: 1 DNC, 2 VIN (power), 3 TEMP, 4 GND (power), 5 TRIM/NR, 6 VOUT (out), 7 NC, 8 DNC

## ANLG-00082
designator U?, comment AD8337BCPZ
IC, VGA, Single-Ended, Linear-in-dB, DC to 100MHz; Part Number: ANLG-00082; Manufacturer: Analog Devices; Manufacturer PN: AD8337BCPZ; Cost: 6.19
footprint LFCSP-8
pins: 1 VOUT, 2 VCOM, 3 INPP, 4 INPN, 5 PRAO, 6 VNEG, 7 GAIN, 8 VPOS, 9 EP

## ANLG-00083
designator U?, comment INA301A3IDGKR
IC, Current Monitor, High/Low-Side, 8-VSSOP; Part Number: ANLG-00083; Manufacturer: TI; Manufacturer PN: INA301A3IDGKR; Cost: 2.95
footprint VSSOP-8_0
pins: 1 VS, 2 OUT, 3 LIMIT, 4 GND, 5 RESET, 6 ~{ALERT}, 7 IN-, 8 IN+

## ANLG-00084
designator U?, comment ADS7142IRUGR
IC, Nanopower Dual-Channel ADC, SAR, 12 or 16-bit; Part Number: ANLG-00084; Manufacturer: TI; Manufacturer PN: ADS7142IRUGR; Cost: 2.35; Distributor Link: https://www.digikey.com/en/products/detail/texas-instruments/ADS7142IRUGR/8038160
footprint PQFP-10
pins: 1 AVDD (power), 2 AINP/AIN0, 3 AINM/AIN1, 4 ADDR (in), 5 BUSY/~{RDY} (out), 6 ALERT (oc), 7 SDA, 8 SCL (in), 9 DVDD (power), 10 GND (power)

## ANLG-00085
designator U?, comment LT6656BIS6-2.048
IC, 1uA Precision Voltage Reference, 2.048V 0.1%, 10mV dropout; Part Number: ANLG-00085; Manufacturer: Analog Devices; Manufacturer PN: LT6656BIS6-2.048; Cost: 5.42; Distributor Link: https://www.digikey.com/en/products/detail/analog-devices-inc/LT6656BIS6-2-048-TRMPBF/2342914
footprint TSOT-23-6
pins: 1 GND, 2 GND, 3 NC hidden, 4 VIN, 5 NC hidden, 6 VOUT

## ANLG-00086
designator U?, comment TSU111IQ1T  (value not drawn)
Op Amp, Nanopower, High Accuracy, 1.5~5V CMOS, TSU111; Part Number: ANLG-00086; Manufacturer: ST; Manufacturer PN: TSU111IQ1T; Cost: 1.65; Distributor Link: https://www.digikey.com/en/products/detail/stmicroelectronics/TSU111IQ1T/6558535
footprint DFN-6-1.2x1.3
pins: 1, 2, 3, 4, 6
text: VCC; VSS

## ANLG-00087
designator U?, comment LM334S8
IC, Current Source, Adjustable, 1uA~10mA, LM334, SOIC-8; Part Number: ANLG-00087; Manufacturer: Analog Devices; Manufacturer PN: LM334S8; Cost: 3.88; Distributor Link: https://www.digikey.com/en/products/detail/analog-devices-inc/LM334S8-PBF/961479
footprint SO-8_1
pins: 1 V-, 2 R, 3 V+

## ANLG-00088
designator U?, comment SN74LVC2G66QDCUR
Analog Switch, Dual, SPST, SN74LVC2G66, VSSOP-8; Part Number: ANLG-00088; Manufacturer: TI; Manufacturer PN: SN74LVC2G66QDCUR; Cost: 0.51; Distributor Link: https://www.digikey.com/en/products/detail/texas-instruments/SN74LVC2G66QDCURQ1/2687258
footprint VSSOP-8_0
pins: 1 1A, 2 1B, 3 2C, 4 GND, 5 2A, 6 2B, 7 1C, 8 VCC

## ANLG-00089
designator U?, comment TSU112IQ2T
Op Amp, Dual, Nanopower, High Accuracy, 1.5~5V CMOS, TSU112; Part Number: ANLG-00089; Manufacturer: ST; Manufacturer PN: TSU112IQ2T; Cost: 2.19; Distributor Link: https://www.digikey.com/en/products/detail/stmicroelectronics/TSU112IQ2T/9586585
footprint DFN-8-2x2
part A pins: 1, 2, 3, 4, 8
part B pins: 5, 6, 7
part A text: VCC; VSS

## ANLG-00090
designator U?, comment ADS1118
ADC, 16-bit, 4-channel, SPI, ADS1118, 10-XFQFN; Part Number: ANLG-00090; Manufacturer: TI; Manufacturer PN: ADS1118IRUGR; Cost: 5.62; Distributor Link: https://www.digikey.com/en/products/detail/texas-instruments/ADS1118IRUGR/3660058?s=N4IgTCBcDaIIIBEDKBGNAOAkgJQKoHFsQBdAXyA
footprint 10-XFQFN
pins: 1 SCLK, 2 ~{CS}, 3 GND, 4 AIN0, 5 AIN1, 6 AIN2, 7 AIN3, 8 VDD, 9 DOUT, 10 DIN

## ANLG-00091
designator U?, comment INA293A
IC, Current Monitor, High/Low-Side, SOT-23; Part Number: ANLG-00091; Manufacturer: TI; Manufacturer PN: INA293A3QDBVRQ1; Cost: 3.48; Distributor Link: https://www.digikey.com/en/products/detail/texas-instruments/INA293A3QDBVRQ1/13545350
footprint SOT-23-5_1
pins: 1 OUT, 2 GND, 3 IN+, 4 IN-, 5 VS

## ANLG-00092
designator U?, comment MAX4080SAUA+
IC, High-Side Current Sense Amplifier, 76V, 60V/V,MAX4080; Part Number: ANLG-00092; Manufacturer: Maxim; Manufacturer PN: MAX4080SAUA+; Cost: 3.63; Distributor Link: https://www.digikey.com/en/products/detail/maxim-integrated/MAX4080SAUA/1702357
footprint MSOP-8_MAXIM
pins: 1 RS+, 2 VCC, 3 NC hidden, 4 GND, 5 OUT, 6 NC hidden, 7 NC hidden, 8 RS-